# Altium schematic symbol library Molex-SD-73415-298.SchLib: 1 symbol
Pins are listed as number, name and electrical type; pins without a type are passive.

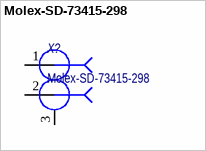
[diagram p0: symbol Molex-SD-73415-298]

## Molex-SD-73415-298
designator X?
BNC JACK, 50 OHM DUAL STACK; Наименование: Molex-SD-73415-298; Назначение: BNC JACK, 50 OHM DUAL STACK
footprint Molex-SD-73415-298
pins: 1 Signal 1, 2 Signal 2, 3 GND